# Altium schematic symbol library 7POS.SchLib: 1 symbol
Pins are listed as number, name and electrical type; pins without a type are passive.

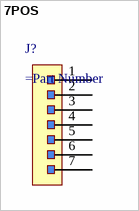
[diagram p0: symbol 7POS]

## 7POS
designator J?
=Description
pins: 1, 2, 3, 4, 5, 6, 7